# EAGLE library part MX25L25735E (library DigitalIC)
Digikey Part Number: 1092-1000-ND Manufacturer Part Number: MX25L25735EMI-12G
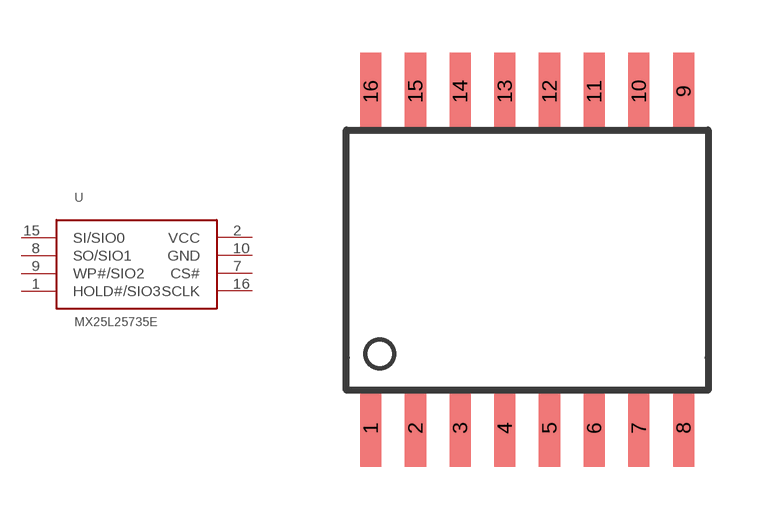
[diagram p3: symbol with the pads of SOIC16R; footprint SOIC16R]

Designator prefix U

## MX25L25735E  [SOIC16R]
1  HOLD#/SIO3
2  VCC
7  CS#
8  SO/SIO1
9  WP#/SIO2
10  GND
15  SI/SIO0
16  SCLK

## Footprint SOIC16R (pad centres in mm)
16-Lead SOIC (R) Package Source: http://www.analog.com/static/imported-files/data_sheets/AD745.pdf
smd 0.6 x 2.2: 1 -4.445,-4.775; 2 -3.175,-4.775; 3 -1.905,-4.775; 4 -0.635,-4.775; 5 0.635,-4.775; 6 1.905,-4.775; 7 3.175,-4.775; 8 4.445,-4.775; 9 4.445,4.8; 10 3.175,4.8; 11 1.905,4.8; 12 0.635,4.8; 13 -0.635,4.8; 14 -1.905,4.8; 15 -3.175,4.8; 16 -4.445,4.8